# Altium footprint library CONN-SPE-428192213_MOLEX.PcbLib: 1 footprints
Each footprint in its own frame and in the unit in brackets; x right, y up, seen from the top. Pads: shape width x height; smd on the part's side, far side on the other; paste and mask are expansions set on the pad; w line width, h text height; cw(c..) or ccw(c..) is an arc to the next point about the centre after c.
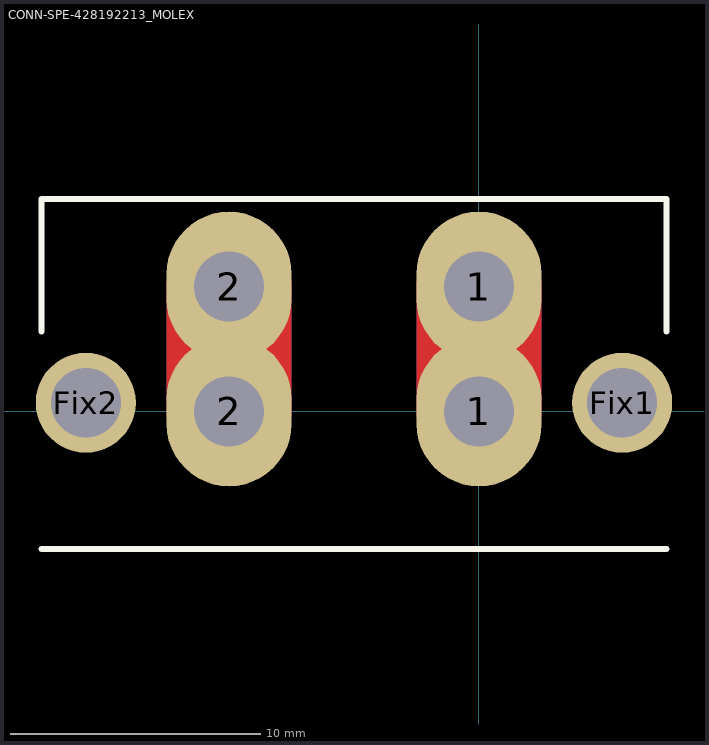
[diagram p0: the footprint, top view; thin cyan lines are the x and y axes]

## CONN-SPE-428192213_MOLEX [mm]
pads (6):
  oval 5x6 hole 2.8: 1(0,0) 1(0,5) 2(-10,0) 2(-10,5)
  round 4 hole 2.8: Fix1(5.73,0.35) Fix2(-15.73,0.35)
Top Layer:
  lines w5: -10,0 -10,5 ; 0,0 0,5
Bottom Layer:
  lines w5: -10,0 -10,5 ; 0,0 0,5
Top Overlay:
  lines w0.25: -17.5,-5.5 -10,-5.5 7.5,-5.5 ; -17.5,3.2 -17.5,8.5 -10,8.5 7.5,8.5 7.5,3.2
3D body: height 21, standoff -4.25, extent -17.04,-5 6.84,9.1